# Altium footprint library 6LT400-5-1-1PCBb.PcbLib: 39 footprints (part 1 of 3)
Each footprint in its own frame and in the unit in brackets; x right, y up, seen from the top. Pads: shape width x height; smd on the part's side, far side on the other; paste and mask are expansions set on the pad; w line width, h text height; cw(c..) or ccw(c..) is an arc to the next point about the centre after c.
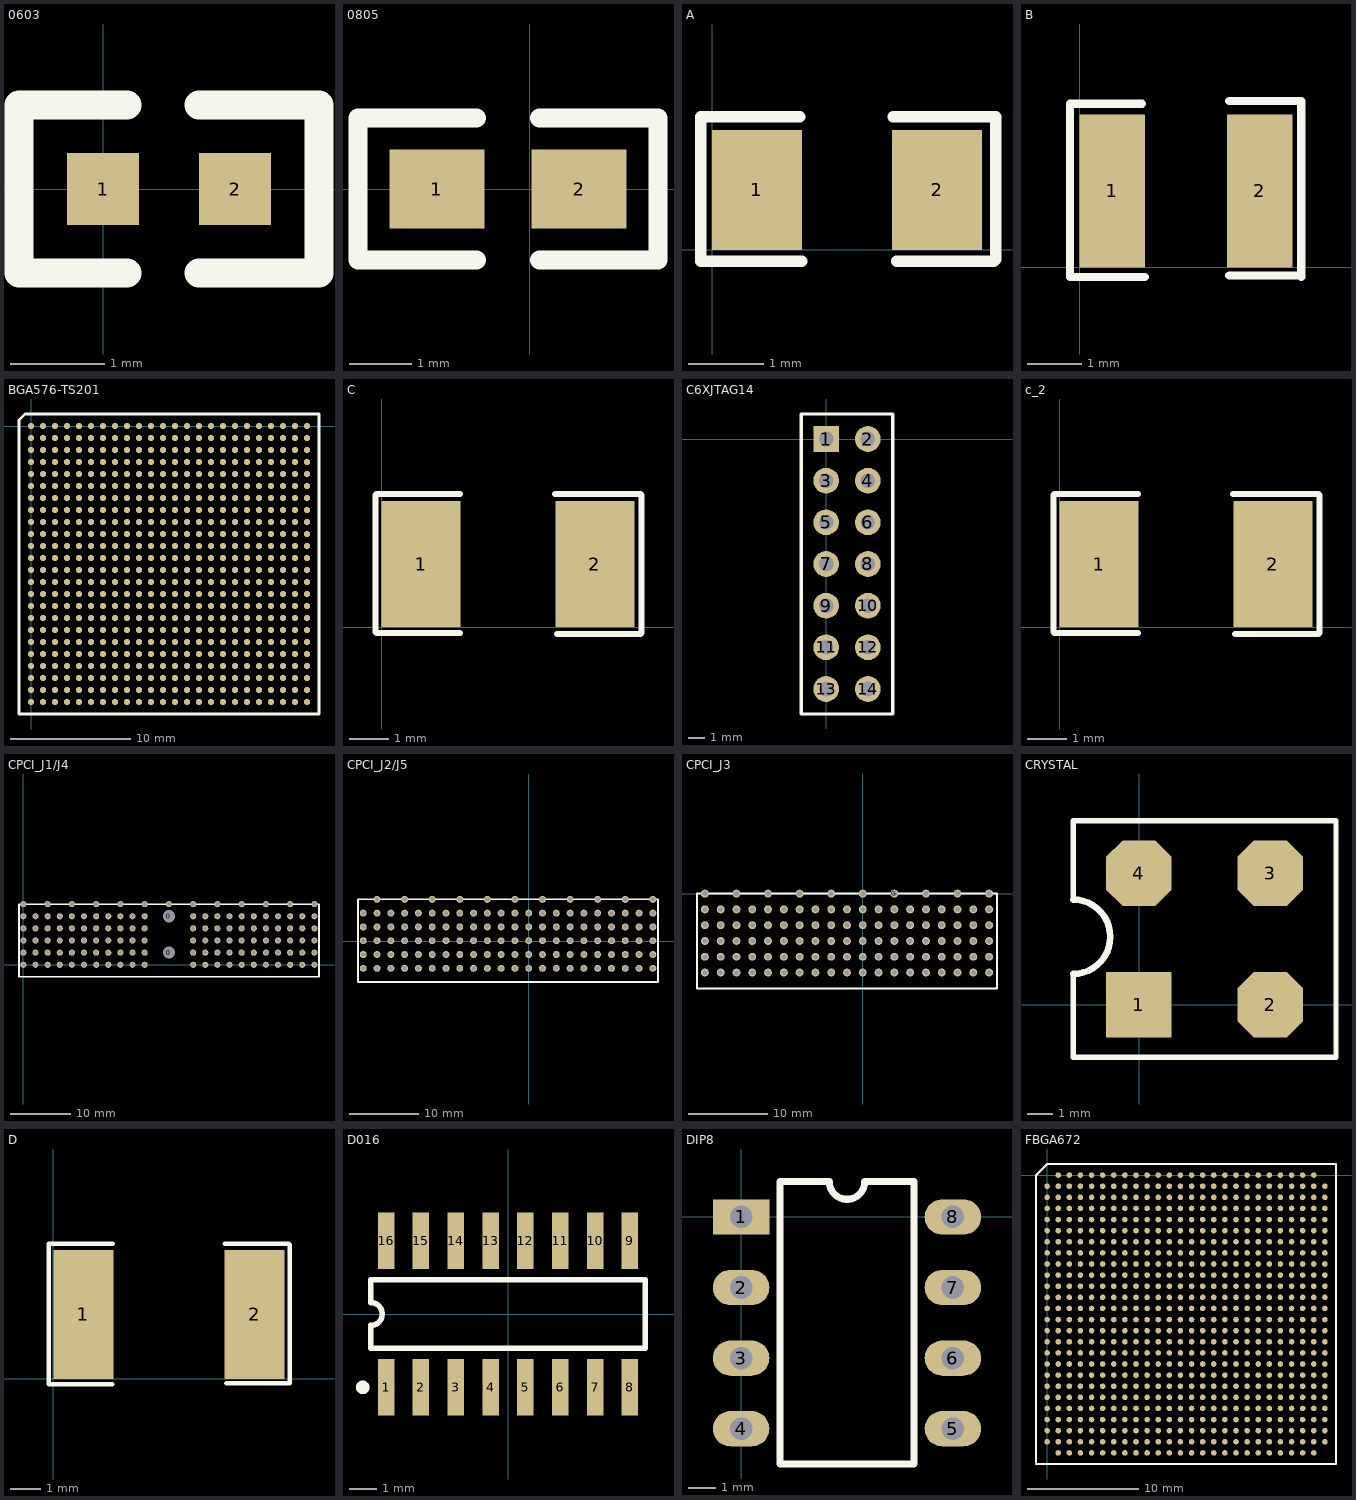
[diagram p0: the footprints below, top view; thin cyan lines are the x and y axes]

## 0603 [mil]
pads (2):
  rect 30x30 smd: 1(0,0) 2(55,0)
Top Overlay:
  lines w12: 10,-35 -35,-35 -35,35 10,35 ; 40,-35 90,-35 90,35 40,35

## 0805 [mil]
pads (2):
  rect 60x50 smd: 1(-58.77,0.22) 2(31.23,0.22)
Top Overlay:
  lines w12: -33.77,-44.78 -108.77,-44.78 -108.77,45.22 -33.77,45.22 ; 6.24,-44.78 81.23,-44.78 81.23,45.22 6.24,45.22

## A [mm]
pads (2):
  rect 1.2x1.6 smd: 1(0.6,0.8) 2(3,0.8)
Top Overlay:
  lines w0.152: 1.168,1.778 -0.127,1.778 -0.152,1.778 -0.152,-0.152 1.194,-0.152 ; 2.413,1.778 3.785,1.778 3.785,-0.127 3.759,-0.152 2.464,-0.152

## B [mm]
pads (2):
  rect 1.2x2.8 smd: 1(0.6,1.4) 2(3.3,1.4)
Top Overlay:
  lines w0.152: 1.143,2.997 -0.178,2.997 -0.178,-0.127 -0.178,-0.178 1.194,-0.178 ; 2.743,-0.152 4.039,-0.152 4.064,-0.178 4.064,3.048 4.013,3.048 2.743,3.048

## BGA576-TS201 [mm]
pads (576):
  round 0.51 smd: A1(0,0) A2(1,0) A3(2,0) A4(3,0) A5(4,0) A6(5,0) A7(6,0) A8(7,0) A9(8,0) A10(9,0) A11(10,0) A12(11,0) A13(12,0) A14(13,0) A15(14,0) A16(15,0) A17(16,0) A18(17,0) A19(18,0) A20(19,0) A21(20,0) A22(21,0) A23(22,0) A24(23,0) AA1(0,-20) AA2(1,-20) AA3(2,-20) AA4(3,-20) AA5(4,-20) AA6(5,-20) AA7(6,-20) AA8(7,-20) AA9(8,-20) AA10(9,-20) AA11(10,-20) AA12(11,-20) AA13(12,-20) AA14(13,-20) AA15(14,-20) AA16(15,-20) AA17(16,-20) AA18(17,-20) AA19(18,-20) AA20(19,-20) AA21(20,-20) AA22(21,-20) AA23(22,-20) AA24(23,-20) AB1(0,-21) AB2(1,-21) AB3(2,-21) AB4(3,-21) AB5(4,-21) AB6(5,-21) AB7(6,-21) AB8(7,-21) AB9(8,-21) AB10(9,-21) AB11(10,-21) AB12(11,-21) AB13(12,-21) AB14(13,-21) AB15(14,-21) AB16(15,-21) AB17(16,-21) AB18(17,-21) AB19(18,-21) AB20(19,-21) AB21(20,-21) AB22(21,-21) AB23(22,-21) AB24(23,-21) AC1(0,-22) AC2(1,-22) AC3(2,-22) AC4(3,-22) AC5(4,-22) AC6(5,-22) AC7(6,-22) AC8(7,-22) AC9(8,-22) AC10(9,-22) AC11(10,-22) AC12(11,-22) AC13(12,-22) AC14(13,-22) AC15(14,-22) AC16(15,-22) AC17(16,-22) AC18(17,-22) AC19(18,-22) AC20(19,-22) AC21(20,-22) AC22(21,-22) AC23(22,-22) AC24(23,-22) AD1(0,-23) AD2(1,-23) AD3(2,-23) AD4(3,-23) AD5(4,-23) AD6(5,-23) AD7(6,-23) AD8(7,-23) AD9(8,-23) AD10(9,-23) AD11(10,-23) AD12(11,-23) AD13(12,-23) AD14(13,-23) AD15(14,-23) AD16(15,-23) AD17(16,-23) AD18(17,-23) AD19(18,-23) AD20(19,-23) AD21(20,-23) AD22(21,-23) AD23(22,-23) AD24(23,-23) B1(0,-1) B2(1,-1) B3(2,-1) B4(3,-1) B5(4,-1) B6(5,-1) B7(6,-1) B8(7,-1) B9(8,-1) B10(9,-1) B11(10,-1) B12(11,-1) B13(12,-1) B14(13,-1) B15(14,-1) B16(15,-1) B17(16,-1) B18(17,-1) B19(18,-1) B20(19,-1) B21(20,-1) B22(21,-1) B23(22,-1) B24(23,-1) C1(0,-2) C2(1,-2) C3(2,-2) C4(3,-2) C5(4,-2) C6(5,-2) C7(6,-2) C8(7,-2) C9(8,-2) C10(9,-2) C11(10,-2) C12(11,-2) C13(12,-2) C14(13,-2) C15(14,-2) C16(15,-2) C17(16,-2) C18(17,-2) C19(18,-2) C20(19,-2) C21(20,-2) C22(21,-2) C23(22,-2) C24(23,-2) D1(0,-3) D2(1,-3) D3(2,-3) D4(3,-3) D5(4,-3) D6(5,-3) D7(6,-3) D8(7,-3) D9(8,-3) D10(9,-3) D11(10,-3) D12(11,-3) D13(12,-3) D14(13,-3) D15(14,-3) D16(15,-3) D17(16,-3) D18(17,-3) D19(18,-3) D20(19,-3) D21(20,-3) D22(21,-3) D23(22,-3) D24(23,-3) E1(0,-4) E2(1,-4) E3(2,-4) E4(3,-4) E5(4,-4) E6(5,-4) E7(6,-4) E8(7,-4) E9(8,-4) E10(9,-4) E11(10,-4) E12(11,-4) E13(12,-4) E14(13,-4) E15(14,-4) E16(15,-4) E17(16,-4) E18(17,-4) E19(18,-4) E20(19,-4) E21(20,-4) E22(21,-4) E23(22,-4) E24(23,-4) F1(0,-5) F2(1,-5) F3(2,-5) F4(3,-5) F5(4,-5) F6(5,-5) F7(6,-5) F8(7,-5) F9(8,-5) F10(9,-5) F11(10,-5) F12(11,-5) F13(12,-5) F14(13,-5) F15(14,-5) F16(15,-5) F17(16,-5) F18(17,-5) F19(18,-5) F20(19,-5) F21(20,-5) F22(21,-5) F23(22,-5) F24(23,-5) G1(0,-6) G2(1,-6) G3(2,-6) G4(3,-6) G5(4,-6) G6(5,-6) G7(6,-6) G8(7,-6) G9(8,-6) G10(9,-6) G11(10,-6) G12(11,-6) G13(12,-6) G14(13,-6) G15(14,-6) G16(15,-6) G17(16,-6) G18(17,-6) G19(18,-6) G20(19,-6) G21(20,-6) G22(21,-6) G23(22,-6) G24(23,-6) H1(0,-7) H2(1,-7) H3(2,-7) H4(3,-7) H5(4,-7) H6(5,-7) H7(6,-7) H8(7,-7) H9(8,-7) H10(9,-7) H11(10,-7) H12(11,-7) H13(12,-7) H14(13,-7) H15(14,-7) H16(15,-7) H17(16,-7) H18(17,-7) H19(18,-7) H20(19,-7) H21(20,-7) H22(21,-7) H23(22,-7) H24(23,-7) J1(0,-8) J2(1,-8) J3(2,-8) J4(3,-8) J5(4,-8) J6(5,-8) J7(6,-8) J8(7,-8) J9(8,-8) J10(9,-8) J11(10,-8) J12(11,-8) J13(12,-8) J14(13,-8) J15(14,-8) J16(15,-8) J17(16,-8) J18(17,-8) J19(18,-8) J20(19,-8) J21(20,-8) J22(21,-8) J23(22,-8) J24(23,-8) K1(0,-9) K2(1,-9) K3(2,-9) K4(3,-9) K5(4,-9) K6(5,-9) K7(6,-9) K8(7,-9) K9(8,-9) K10(9,-9) K11(10,-9) K12(11,-9) K13(12,-9) K14(13,-9) K15(14,-9) K16(15,-9) K17(16,-9) K18(17,-9) K19(18,-9) K20(19,-9) K21(20,-9) K22(21,-9) K23(22,-9) K24(23,-9) L1(0,-10) L2(1,-10) L3(2,-10) L4(3,-10) L5(4,-10) L6(5,-10) L7(6,-10) L8(7,-10) L9(8,-10) L10(9,-10) L11(10,-10) L12(11,-10) L13(12,-10) L14(13,-10) L15(14,-10) L16(15,-10) L17(16,-10) L18(17,-10) L19(18,-10) L20(19,-10) L21(20,-10) L22(21,-10) L23(22,-10) L24(23,-10) M1(0,-11) M2(1,-11) M3(2,-11) M4(3,-11) M5(4,-11) M6(5,-11) M7(6,-11) M8(7,-11) M9(8,-11) M10(9,-11) M11(10,-11) M12(11,-11) M13(12,-11) M14(13,-11) M15(14,-11) M16(15,-11) M17(16,-11) M18(17,-11) M19(18,-11) M20(19,-11) M21(20,-11) M22(21,-11) M23(22,-11) M24(23,-11) N1(0,-12) N2(1,-12) N3(2,-12) N4(3,-12) N5(4,-12) N6(5,-12) N7(6,-12) N8(7,-12) N9(8,-12) N10(9,-12) N11(10,-12) N12(11,-12) N13(12,-12) N14(13,-12) N15(14,-12) N16(15,-12) N17(16,-12) N18(17,-12) N19(18,-12) N20(19,-12) N21(20,-12) N22(21,-12) N23(22,-12) N24(23,-12) P1(0,-13) P2(1,-13) P3(2,-13) P4(3,-13) P5(4,-13) P6(5,-13) P7(6,-13) P8(7,-13) P9(8,-13) P10(9,-13) P11(10,-13) P12(11,-13) P13(12,-13) P14(13,-13) P15(14,-13) P16(15,-13) P17(16,-13) P18(17,-13) P19(18,-13) P20(19,-13) P21(20,-13) P22(21,-13) P23(22,-13) P24(23,-13) R1(0,-14) R2(1,-14) R3(2,-14) R4(3,-14) R5(4,-14) R6(5,-14) R7(6,-14) R8(7,-14) R9(8,-14) R10(9,-14) R11(10,-14) R12(11,-14) R13(12,-14) R14(13,-14) R15(14,-14) R16(15,-14) R17(16,-14) R18(17,-14) R19(18,-14) R20(19,-14) R21(20,-14) R22(21,-14) R23(22,-14) R24(23,-14) T1(0,-15) T2(1,-15) T3(2,-15) T4(3,-15) T5(4,-15) T6(5,-15) T7(6,-15) T8(7,-15) T9(8,-15) T10(9,-15) T11(10,-15) T12(11,-15) T13(12,-15) T14(13,-15) T15(14,-15) T16(15,-15) T17(16,-15) T18(17,-15) T19(18,-15) T20(19,-15) T21(20,-15) T22(21,-15) T23(22,-15) T24(23,-15) U1(0,-16) U2(1,-16) U3(2,-16) U4(3,-16) U5(4,-16) U6(5,-16) U7(6,-16) U8(7,-16) U9(8,-16) U10(9,-16) U11(10,-16) U12(11,-16) U13(12,-16) U14(13,-16) U15(14,-16) U16(15,-16) U17(16,-16) U18(17,-16) U19(18,-16) U20(19,-16) U21(20,-16) U22(21,-16) U23(22,-16) U24(23,-16) V1(0,-17) V2(1,-17) V3(2,-17) V4(3,-17) V5(4,-17) V6(5,-17) V7(6,-17) V8(7,-17) V9(8,-17) V10(9,-17) V11(10,-17) V12(11,-17) V13(12,-17) V14(13,-17) V15(14,-17) V16(15,-17) V17(16,-17) V18(17,-17) V19(18,-17) V20(19,-17) V21(20,-17) V22(21,-17) V23(22,-17) V24(23,-17) W1(0,-18) W2(1,-18) W3(2,-18) W4(3,-18) W5(4,-18) W6(5,-18) W7(6,-18) W8(7,-18) W9(8,-18) W10(9,-18) W11(10,-18) W12(11,-18) W13(12,-18) W14(13,-18) W15(14,-18) W16(15,-18) W17(16,-18) W18(17,-18) W19(18,-18) W20(19,-18) W21(20,-18) W22(21,-18) W23(22,-18) W24(23,-18) Y1(0,-19) Y2(1,-19) Y3(2,-19) Y4(3,-19) Y5(4,-19) Y6(5,-19) Y7(6,-19) Y8(7,-19) Y9(8,-19) Y10(9,-19) Y11(10,-19) Y12(11,-19) Y13(12,-19) Y14(13,-19) Y15(14,-19) Y16(15,-19) Y17(16,-19) Y18(17,-19) Y19(18,-19) Y20(19,-19) Y21(20,-19) Y22(21,-19) Y23(22,-19) Y24(23,-19)
Top Overlay:
  lines w0.254: -1,-24 24,-24 24,1 -0.5,1 -1,0.5 -1,-24

## C [mm]
pads (2):
  rect 2x3.2 smd: 1(1,1.6) 2(5.4,1.6)
Top Overlay:
  lines w0.152: 1.981,-0.152 -0.127,-0.152 -0.152,-0.127 -0.152,3.353 -0.127,3.378 1.981,3.378 ; 4.394,3.378 6.553,3.378 6.579,3.353 6.579,-0.152 6.553,-0.178 4.445,-0.178

## C6XJTAG14 [mm]
pads (14):
  rect 1.57x1.57 hole 0.9: 1(-0.009,0.008)
  round 1.57 hole 0.9: 2(2.531,0.008) 3(-0.009,-2.532) 4(2.531,-2.532) 5(-0.009,-5.072) 6(2.531,-5.072) 7(-0.009,-7.612) 8(2.531,-7.612) 9(-0.009,-10.152) 10(2.531,-10.152) 11(-0.009,-12.692) 12(2.531,-12.692) 13(-0.009,-15.232) 14(2.531,-15.232)
Top Overlay:
  lines w0.203: -1.533,-16.756 4.055,-16.756 4.055,1.532 -1.533,1.532 -1.533,-16.756

## c_2 [mm]
pads (2):
  rect 2x3.2 smd: 1(1,1.6) 2(5.4,1.6)
Top Overlay:
  lines w0.152: 1.981,-0.152 -0.127,-0.152 -0.152,-0.127 -0.152,3.353 -0.127,3.378 1.981,3.378 ; 4.394,3.378 6.553,3.378 6.579,3.353 6.579,-0.152 6.553,-0.178 4.445,-0.178

## CPCI_J1/J4 [mm]
pads (125):
  round 1.524 hole 2: 0(24.015,2.005) 0(24.015,8.005)
  round 1 hole 0.635: A1(0.015,0.005) A2(2.015,0.005) A3(4.015,0.005) A4(6.015,0.005) A5(8.015,0.005) A6(10.015,0.005) A7(12.015,0.005) A8(14.015,0.005) A9(16.015,0.005) A10(18.015,0.005) A11(20.015,0.005) A15(28.015,0.005) A16(30.015,0.005) A17(32.015,0.005) A18(34.015,0.005) A19(36.015,0.005) A20(38.015,0.005) A21(40.015,0.005) A22(42.015,0.005) A23(44.015,0.005) A24(46.015,0.005) A25(48.015,0.005) B1(0.015,2.005) B2(2.015,2.005) B3(4.015,2.005) B4(6.015,2.005) B5(8.015,2.005) B6(10.015,2.005) B7(12.015,2.005) B8(14.015,2.005) B9(16.015,2.005) B10(18.015,2.005) B11(20.015,2.005) B15(28.015,2.005) B16(30.015,2.005) B17(32.015,2.005) B18(34.015,2.005) B19(36.015,2.005) B20(38.015,2.005) B21(40.015,2.005) B22(42.015,2.005) B23(44.015,2.005) B24(46.015,2.005) B25(48.015,2.005) C1(0.015,4.005) C2(2.015,4.005) C3(4.015,4.005) C4(6.015,4.005) C5(8.015,4.005) C6(10.015,4.005) C7(12.015,4.005) C8(14.015,4.005) C9(16.015,4.005) C10(18.015,4.005) C11(20.015,4.005) C15(28.015,4.005) C16(30.015,4.005) C17(32.015,4.005) C18(34.015,4.005) C19(36.015,4.005) C20(38.015,4.005) C21(40.015,4.005) C22(42.015,4.005) C23(44.015,4.005) C24(46.015,4.005) C25(48.015,4.005) D1(0.015,6.005) D2(2.015,6.005) D3(4.015,6.005) D4(6.015,6.005) D5(8.015,6.005) D6(10.015,6.005) D7(12.015,6.005) D8(14.015,6.005) D9(16.015,6.005) D10(18.015,6.005) D11(20.015,6.005) D15(28.015,6.005) D16(30.015,6.005) D17(32.015,6.005) D18(34.015,6.005) D19(36.015,6.005) D20(38.015,6.005) D21(40.015,6.005) D22(42.015,6.005) D23(44.015,6.005) D24(46.015,6.005) D25(48.015,6.005) E1(0.015,8.005) E2(2.015,8.005) E3(4.015,8.005) E4(6.015,8.005) E5(8.015,8.005) E6(10.015,8.005) E7(12.015,8.005) E8(14.015,8.005) E9(16.015,8.005) E10(18.015,8.005) E11(20.015,8.005) E15(28.015,8.005) E16(30.015,8.005) E17(32.015,8.005) E18(34.015,8.005) E19(36.015,8.005) E20(38.015,8.005) E21(40.015,8.005) E22(42.015,8.005) E23(44.015,8.005) E24(46.015,8.005) E25(48.015,8.005) F1(0.015,10.005) F3(4.015,10.005) F5(8.015,10.005) F7(12.015,10.005) F9(16.015,10.005) F11(20.015,10.005) F15(28.015,10.005) F17(32.015,10.005) F19(36.015,10.005) F21(40.015,10.005) F23(44.015,10.005) F25(48.015,10.005) G(24.015,10.005)
Top Overlay:
  lines w0.254: -0.708,-1.995 48.771,-1.995 48.771,10.005 -0.708,10.005 -0.708,-1.995

## CPCI_J2/J5 [mm]
pads (121):
  round 1 hole 0.635: A1(-23.991,-3.918) A2(-21.991,-3.918) A3(-19.991,-3.918) A4(-17.991,-3.918) A5(-15.991,-3.918) A6(-13.991,-3.918) A7(-11.991,-3.918) A8(-9.991,-3.918) A9(-7.991,-3.918) A10(-5.991,-3.918) A11(-3.991,-3.918) A12(-1.991,-3.918) A13(0.009,-3.918) A14(2.009,-3.918) A15(4.009,-3.918) A16(6.009,-3.918) A17(8.009,-3.918) A18(10.009,-3.918) A19(12.009,-3.918) A20(14.009,-3.918) A21(16.009,-3.918) A22(18.009,-3.918) B1(-23.991,-1.918) B2(-21.991,-1.918) B3(-19.991,-1.918) B4(-17.991,-1.918) B5(-15.991,-1.918) B6(-13.991,-1.918) B7(-11.991,-1.918) B8(-9.991,-1.918) B9(-7.991,-1.918) B10(-5.991,-1.918) B11(-3.991,-1.918) B12(-1.991,-1.918) B13(0.009,-1.918) B14(2.009,-1.918) B15(4.009,-1.918) B16(6.009,-1.918) B17(8.009,-1.918) B18(10.009,-1.918) B19(12.009,-1.918) B20(14.009,-1.918) B21(16.009,-1.918) B22(18.009,-1.918) C1(-23.991,0.082) C2(-21.991,0.082) C3(-19.991,0.082) C4(-17.991,0.082) C5(-15.991,0.082) C6(-13.991,0.082) C7(-11.991,0.082) C8(-9.991,0.082) C9(-7.991,0.082) C10(-5.991,0.082) C11(-3.991,0.082) C12(-1.991,0.082) C13(0.009,0.082) C14(2.009,0.082) C15(4.009,0.082) C16(6.009,0.082) C17(8.009,0.082) C18(10.009,0.082) C19(12.009,0.082) C20(14.009,0.082) C21(16.009,0.082) C22(18.009,0.082) D1(-23.991,2.082) D2(-21.991,2.082) D3(-19.991,2.082) D4(-17.991,2.082) D5(-15.991,2.082) D6(-13.991,2.082) D7(-11.991,2.082) D8(-9.991,2.082) D9(-7.991,2.082) D10(-5.991,2.082) D11(-3.991,2.082) D12(-1.991,2.082) D13(0.009,2.082) D14(2.009,2.082) D15(4.009,2.082) D16(6.009,2.082) D17(8.009,2.082) D18(10.009,2.082) D19(12.009,2.082) D20(14.009,2.082) D21(16.009,2.082) D22(18.009,2.082) E1(-23.991,4.082) E2(-21.991,4.082) E3(-19.991,4.082) E4(-17.991,4.082) E5(-15.991,4.082) E6(-13.991,4.082) E7(-11.991,4.082) E8(-9.991,4.082) E9(-7.991,4.082) E10(-5.991,4.082) E11(-3.991,4.082) E12(-1.991,4.082) E13(0.009,4.082) E14(2.009,4.082) E15(4.009,4.082) E16(6.009,4.082) E17(8.009,4.082) E18(10.009,4.082) E19(12.009,4.082) E20(14.009,4.082) E21(16.009,4.082) E22(18.009,4.082) F2(-21.991,6.082) F4(-17.991,6.082) F6(-13.991,6.082) F8(-9.991,6.082) F10(-5.991,6.082) F12(-1.991,6.082) F14(2.009,6.082) F16(6.009,6.082) F18(10.009,6.082) F20(14.009,6.082) F22(18.009,6.082)
Top Overlay:
  lines w0.254: -24.752,-5.918 18.758,-5.918 ; -24.752,-5.914 -24.752,6.086 ; -24.752,6.082 18.758,6.082 ; 18.758,-5.864 18.758,6.086

## CPCI_J3 [mm]
pads (105):
  round 1 hole 0.635: A1(-19.997,-10.009) A2(-17.997,-10.009) A3(-15.997,-10.009) A4(-13.997,-10.009) A5(-11.997,-10.009) A6(-9.997,-10.009) A7(-7.997,-10.009) A8(-5.997,-10.009) A9(-3.997,-10.009) A10(-1.997,-10.009) A11(0.003,-10.009) A12(2.003,-10.009) A13(4.003,-10.009) A14(6.003,-10.009) A15(8.003,-10.009) A16(10.003,-10.009) A17(12.003,-10.009) A18(14.003,-10.009) A19(16.003,-10.009) B1(-19.997,-8.009) B2(-17.997,-8.009) B3(-15.997,-8.009) B4(-13.997,-8.009) B5(-11.997,-8.009) B6(-9.997,-8.009) B7(-7.997,-8.009) B8(-5.997,-8.009) B9(-3.997,-8.009) B10(-1.997,-8.009) B11(0.003,-8.009) B12(2.003,-8.009) B13(4.003,-8.009) B14(6.003,-8.009) B15(8.003,-8.009) B16(10.003,-8.009) B17(12.003,-8.009) B18(14.003,-8.009) B19(16.003,-8.009) C1(-19.997,-6.009) C2(-17.997,-6.009) C3(-15.997,-6.009) C4(-13.997,-6.009) C5(-11.997,-6.009) C6(-9.997,-6.009) C7(-7.997,-6.009) C8(-5.997,-6.009) C9(-3.997,-6.009) C10(-1.997,-6.009) C11(0.003,-6.009) C12(2.003,-6.009) C13(4.003,-6.009) C14(6.003,-6.009) C15(8.003,-6.009) C16(10.003,-6.009) C17(12.003,-6.009) C18(14.003,-6.009) C19(16.003,-6.009) D1(-19.997,-4.009) D2(-17.997,-4.009) D3(-15.997,-4.009) D4(-13.997,-4.009) D5(-11.997,-4.009) D6(-9.997,-4.009) D7(-7.997,-4.009) D8(-5.997,-4.009) D9(-3.997,-4.009) D10(-1.997,-4.009) D11(0.003,-4.009) D12(2.003,-4.009) D13(4.003,-4.009) D14(6.003,-4.009) D15(8.003,-4.009) D16(10.003,-4.009) D17(12.003,-4.009) D18(14.003,-4.009) D19(16.003,-4.009) E1(-19.997,-2.009) E2(-17.997,-2.009) E3(-15.997,-2.009) E4(-13.997,-2.009) E5(-11.997,-2.009) E6(-9.997,-2.009) E7(-7.997,-2.009) E8(-5.997,-2.009) E9(-3.997,-2.009) E10(-1.997,-2.009) E11(0.003,-2.009) E12(2.003,-2.009) E13(4.003,-2.009) E14(6.003,-2.009) E15(8.003,-2.009) E16(10.003,-2.009) E17(12.003,-2.009) E18(14.003,-2.009) E19(16.003,-2.009) F1(-19.997,-0.009) F3(-15.997,-0.009) F5(-11.997,-0.009) F7(-7.997,-0.009) F9(-3.997,-0.009) F11(0.003,-0.009) F15(8.003,-0.009) F17(12.003,-0.009) F19(16.003,-0.009) G(4.003,-0.009)
Top Overlay:
  lines w0.254: -20.997,-12.009 17.003,-12.009 17.003,-0.009 -20.997,-0.009 -20.997,-12.009

## CRYSTAL [mm]
pads (4):
  rect 2.54x2.54 smd: 1(-0.009,0.008)
  oct 2.54x2.54 smd: 2(5.071,0.008) 3(5.071,5.088) 4(-0.009,5.088)
Top Overlay:
  lines w0.203: -2.549,1.198 -2.549,-2.024 7.611,-2.024 7.611,7.12 -2.549,7.12 -2.549,4.072
  lines w0.254: -2.549,1.198 ccw(c-2.549,2.635) -2.549,4.072

## D [mm]
pads (2):
  rect 2x4.3 smd: 1(1,2.15) 2(6.7,2.15)
Top Overlay:
  lines w0.152: -0.152,-0.178 -0.152,4.496 ; -0.152,-0.127 -0.102,-0.178 1.956,-0.178 ; -0.127,4.496 1.981,4.496 ; 5.715,4.496 7.849,4.496 7.874,4.47 7.874,-0.152 5.766,-0.152

## D016 [mm]
pads (16):
  rect 0.6x2.05 smd: 1(-4.457,-2.675) 2(-3.187,-2.675) 3(-1.917,-2.675) 4(-0.647,-2.675) 5(0.623,-2.675) 6(1.893,-2.675) 7(3.163,-2.675) 8(4.433,-2.675) 9(4.433,2.675) 10(3.163,2.675) 11(1.893,2.675) 12(0.623,2.675) 13(-0.647,2.675) 14(-1.917,2.675) 15(-3.187,2.675) 16(-4.457,2.675)
Top Overlay:
  circle w0.25: c-5.307,-2.675 r0.125
  lines w0.2: -5.012,-1.25 4.988,-1.25 4.988,1.25 -5.012,1.25 -5.012,0.417 cw(c-5.012,0) -5.012,-0.417 -5.012,-1.25

## DIP8 [mil]
pads (8):
  rect 80x50 hole 32: 1(0,0)
  oval 80x50 hole 32: 2(0,-100) 3(0,-200) 4(0,-300) 5(300,-300) 6(300,-200) 7(300,-100) 8(300,0)
Top Overlay:
  lines w10: 55,-350 245,-350 245,50 175,50 cw(c150,50) 125,50 55,50 55,-350

## FBGA672 [mm]
pads (672):
  round 0.5 smd: A2(0.992,-0.001) A3(1.992,-0.001) A4(2.992,-0.001) A5(3.992,-0.001) A6(4.992,-0.001) A7(5.992,-0.001) A8(6.992,-0.001) A9(7.992,-0.001) A10(8.992,-0.001) A11(9.992,-0.001) A12(10.992,-0.001) A13(11.992,-0.001) A14(12.992,-0.001) A15(13.992,-0.001) A16(14.992,-0.001) A17(15.992,-0.001) A18(16.992,-0.001) A19(17.992,-0.001) A20(18.992,-0.001) A21(19.992,-0.001) A22(20.992,-0.001) A23(21.992,-0.001) A24(22.992,-0.001) A25(23.992,-0.001) AA1(-0.008,-20.001) AA2(0.992,-20.001) AA3(1.992,-20.001) AA4(2.992,-20.001) AA5(3.992,-20.001) AA6(4.992,-20.001) AA7(5.992,-20.001) AA8(6.992,-20.001) AA9(7.992,-20.001) AA10(8.992,-20.001) AA11(9.992,-20.001) AA12(10.992,-20.001) AA13(11.992,-20.001) AA14(12.992,-20.001) AA15(13.992,-20.001) AA16(14.992,-20.001) AA17(15.992,-20.001) AA18(16.992,-20.001) AA19(17.992,-20.001) AA20(18.992,-20.001) AA21(19.992,-20.001) AA22(20.992,-20.001) AA23(21.992,-20.001) AA24(22.992,-20.001) AA25(23.992,-20.001) AA26(24.992,-20.001) AB1(-0.008,-21.001) AB2(0.992,-21.001) AB3(1.992,-21.001) AB4(2.992,-21.001) AB5(3.992,-21.001) AB6(4.992,-21.001) AB7(5.992,-21.001) AB8(6.992,-21.001) AB9(7.992,-21.001) AB10(8.992,-21.001) AB11(9.992,-21.001) AB12(10.992,-21.001) AB13(11.992,-21.001) AB14(12.992,-21.001) AB15(13.992,-21.001) AB16(14.992,-21.001) AB17(15.992,-21.001) AB18(16.992,-21.001) AB19(17.992,-21.001) AB20(18.992,-21.001) AB21(19.992,-21.001) AB22(20.992,-21.001) AB23(21.992,-21.001) AB24(22.992,-21.001) AB25(23.992,-21.001) AB26(24.992,-21.001) AC1(-0.008,-22.001) AC2(0.992,-22.001) AC3(1.992,-22.001) AC4(2.992,-22.001) AC5(3.992,-22.001) AC6(4.992,-22.001) AC7(5.992,-22.001) AC8(6.992,-22.001) AC9(7.992,-22.001) AC10(8.992,-22.001) AC11(9.992,-22.001) AC12(10.992,-22.001) AC13(11.992,-22.001) AC14(12.992,-22.001) AC15(13.992,-22.001) AC16(14.992,-22.001) AC17(15.992,-22.001) AC18(16.992,-22.001) AC19(17.992,-22.001) AC20(18.992,-22.001) AC21(19.992,-22.001) AC22(20.992,-22.001) AC23(21.992,-22.001) AC24(22.992,-22.001) AC25(23.992,-22.001) AC26(24.992,-22.001) AD1(-0.008,-23.001) AD2(0.992,-23.001) AD3(1.992,-23.001) AD4(2.992,-23.001) AD5(3.992,-23.001) AD6(4.992,-23.001) AD7(5.992,-23.001) AD8(6.992,-23.001) AD9(7.992,-23.001) AD10(8.992,-23.001) AD11(9.992,-23.001) AD12(10.992,-23.001) AD13(11.992,-23.001) AD14(12.992,-23.001) AD15(13.992,-23.001) AD16(14.992,-23.001) AD17(15.992,-23.001) AD18(16.992,-23.001) AD19(17.992,-23.001) AD20(18.992,-23.001) AD21(19.992,-23.001) AD22(20.992,-23.001) AD23(21.992,-23.001) AD24(22.992,-23.001) AD25(23.992,-23.001) AD26(24.992,-23.001) AE1(-0.008,-24.001) AE2(0.992,-24.001) AE3(1.992,-24.001) AE4(2.992,-24.001) AE5(3.992,-24.001) AE6(4.992,-24.001) AE7(5.992,-24.001) AE8(6.992,-24.001) AE9(7.992,-24.001) AE10(8.992,-24.001) AE11(9.992,-24.001) AE12(10.992,-24.001) AE13(11.992,-24.001) AE14(12.992,-24.001) AE15(13.992,-24.001) AE16(14.992,-24.001) AE17(15.992,-24.001) AE18(16.992,-24.001) AE19(17.992,-24.001) AE20(18.992,-24.001) AE21(19.992,-24.001) AE22(20.992,-24.001) AE23(21.992,-24.001) AE24(22.992,-24.001) AE25(23.992,-24.001) AE26(24.992,-24.001) AF2(0.992,-25.001) AF3(1.992,-25.001) AF4(2.992,-25.001) AF5(3.992,-25.001) AF6(4.992,-25.001) AF7(5.992,-25.001) AF8(6.992,-25.001) AF9(7.992,-25.001) AF10(8.992,-25.001) AF11(9.992,-25.001) AF12(10.992,-25.001) AF13(11.992,-25.001) AF14(12.992,-25.001) AF15(13.992,-25.001) AF16(14.992,-25.001) AF17(15.992,-25.001) AF18(16.992,-25.001) AF19(17.992,-25.001) AF20(18.992,-25.001) AF21(19.992,-25.001) AF22(20.992,-25.001) AF23(21.992,-25.001) AF24(22.992,-25.001) AF25(23.992,-25.001) B1(-0.008,-1.001) B2(0.992,-1.001) B3(1.992,-1.001) B4(2.992,-1.001) B5(3.992,-1.001) B6(4.992,-1.001) B7(5.992,-1.001) B8(6.992,-1.001) B9(7.992,-1.001) B10(8.992,-1.001) B11(9.992,-1.001) B12(10.992,-1.001) B13(11.992,-1.001) B14(12.992,-1.001) B15(13.992,-1.001) B16(14.992,-1.001) B17(15.992,-1.001) B18(16.992,-1.001) B19(17.992,-1.001) B20(18.992,-1.001) B21(19.992,-1.001) B22(20.992,-1.001) B23(21.992,-1.001) B24(22.992,-1.001) B25(23.992,-1.001) B26(24.992,-1.001) C1(-0.008,-2.001) C2(0.992,-2.001) C3(1.992,-2.001) C4(2.992,-2.001) C5(3.992,-2.001) C6(4.992,-2.001) C7(5.992,-2.001) C8(6.992,-2.001) C9(7.992,-2.001) C10(8.992,-2.001) C11(9.992,-2.001) C12(10.992,-2.001) C13(11.992,-2.001) C14(12.992,-2.001) C15(13.992,-2.001) C16(14.992,-2.001) C17(15.992,-2.001) C18(16.992,-2.001) C19(17.992,-2.001) C20(18.992,-2.001) C21(19.992,-2.001) C22(20.992,-2.001) C23(21.992,-2.001) C24(22.992,-2.001) C25(23.992,-2.001) C26(24.992,-2.001) D1(-0.008,-3.001) D2(0.992,-3.001) D3(1.992,-3.001) D4(2.992,-3.001) D5(3.992,-3.001) D6(4.992,-3.001) D7(5.992,-3.001) D8(6.992,-3.001) D9(7.992,-3.001) D10(8.992,-3.001) D11(9.992,-3.001) D12(10.992,-3.001) D13(11.992,-3.001) D14(12.992,-3.001) D15(13.992,-3.001) D16(14.992,-3.001) D17(15.992,-3.001) D18(16.992,-3.001) D19(17.992,-3.001) D20(18.992,-3.001) D21(19.992,-3.001) D22(20.992,-3.001) D23(21.992,-3.001) D24(22.992,-3.001) D25(23.992,-3.001) D26(24.992,-3.001) E1(-0.008,-4.001) E2(0.992,-4.001) E3(1.992,-4.001) E4(2.992,-4.001) E5(3.992,-4.001) E6(4.992,-4.001) E7(5.992,-4.001) E8(6.992,-4.001) E9(7.992,-4.001) E10(8.992,-4.001) E11(9.992,-4.001) E12(10.992,-4.001) E13(11.992,-4.001) E14(12.992,-4.001) E15(13.992,-4.001) E16(14.992,-4.001) E17(15.992,-4.001) E18(16.992,-4.001) E19(17.992,-4.001) E20(18.992,-4.001) E21(19.992,-4.001) E22(20.992,-4.001) E23(21.992,-4.001) E24(22.992,-4.001) E25(23.992,-4.001) E26(24.992,-4.001) F1(-0.008,-5.001) F2(0.992,-5.001) F3(1.992,-5.001) F4(2.992,-5.001) F5(3.992,-5.001) F6(4.992,-5.001) F7(5.992,-5.001) F8(6.992,-5.001) F9(7.992,-5.001) F10(8.992,-5.001) F11(9.992,-5.001) F12(10.992,-5.001) F13(11.992,-5.001) F14(12.992,-5.001) F15(13.992,-5.001) F16(14.992,-5.001) F17(15.992,-5.001) F18(16.992,-5.001) F19(17.992,-5.001) F20(18.992,-5.001) F21(19.992,-5.001) F22(20.992,-5.001) F23(21.992,-5.001) F24(22.992,-5.001) F25(23.992,-5.001) F26(24.992,-5.001) G1(-0.008,-6.001) G2(0.992,-6.001) G3(1.992,-6.001) G4(2.992,-6.001) G5(3.992,-6.001) G6(4.992,-6.001) G7(5.992,-6.001) G8(6.992,-6.001) G9(7.992,-6.001) G10(8.992,-6.001) G11(9.992,-6.001) G12(10.992,-6.001) G13(11.992,-6.001) G14(12.992,-6.001) G15(13.992,-6.001) G16(14.992,-6.001) G17(15.992,-6.001) G18(16.992,-6.001) G19(17.992,-6.001) G20(18.992,-6.001) G21(19.992,-6.001) G22(20.992,-6.001) G23(21.992,-6.001) G24(22.992,-6.001) G25(23.992,-6.001) G26(24.992,-6.001) H1(-0.008,-7.001) H2(0.992,-7.001) H3(1.992,-7.001) H4(2.992,-7.001) H5(3.992,-7.001) H6(4.992,-7.001) H7(5.992,-7.001) H8(6.992,-7.001) H9(7.992,-7.001) H10(8.992,-7.001) H11(9.992,-7.001) H12(10.992,-7.001) H13(11.992,-7.001) H14(12.992,-7.001) H15(13.992,-7.001) H16(14.992,-7.001) H17(15.992,-7.001) H18(16.992,-7.001) H19(17.992,-7.001) H20(18.992,-7.001) H21(19.992,-7.001) H22(20.992,-7.001) H23(21.992,-7.001) H24(22.992,-7.001) H25(23.992,-7.001) H26(24.992,-7.001) J1(-0.008,-8.001) J2(0.992,-8.001) J3(1.992,-8.001) J4(2.992,-8.001) J5(3.992,-8.001) J6(4.992,-8.001) J7(5.992,-8.001) J8(6.992,-8.001) J9(7.992,-8.001) J10(8.992,-8.001) J11(9.992,-8.001) J12(10.992,-8.001) J13(11.992,-8.001) J14(12.992,-8.001) J15(13.992,-8.001) J16(14.992,-8.001) J17(15.992,-8.001) J18(16.992,-8.001) J19(17.992,-8.001) J20(18.992,-8.001) J21(19.992,-8.001) J22(20.992,-8.001) J23(21.992,-8.001) J24(22.992,-8.001) J25(23.992,-8.001) J26(24.992,-8.001) K1(-0.008,-9.001) K2(0.992,-9.001) K3(1.992,-9.001) K4(2.992,-9.001) K5(3.992,-9.001) K6(4.992,-9.001) K7(5.992,-9.001) K8(6.992,-9.001) K9(7.992,-9.001) K10(8.992,-9.001) K11(9.992,-9.001) K12(10.992,-9.001) K13(11.992,-9.001) K14(12.992,-9.001) K15(13.992,-9.001) K16(14.992,-9.001) K17(15.992,-9.001) K18(16.992,-9.001) K19(17.992,-9.001) K20(18.992,-9.001) K21(19.992,-9.001) K22(20.992,-9.001) K23(21.992,-9.001) K24(22.992,-9.001) K25(23.992,-9.001) K26(24.992,-9.001) L1(-0.008,-10.001) L2(0.992,-10.001) L3(1.992,-10.001) L4(2.992,-10.001) L5(3.992,-10.001) L6(4.992,-10.001) L7(5.992,-10.001) L8(6.992,-10.001) L9(7.992,-10.001) L10(8.992,-10.001) L11(9.992,-10.001) L12(10.992,-10.001) L13(11.992,-10.001) L14(12.992,-10.001) L15(13.992,-10.001) L16(14.992,-10.001) L17(15.992,-10.001) L18(16.992,-10.001) L19(17.992,-10.001) L20(18.992,-10.001) L21(19.992,-10.001) L22(20.992,-10.001) L23(21.992,-10.001) L24(22.992,-10.001) L25(23.992,-10.001) L26(24.992,-10.001) M1(-0.008,-11.001) M2(0.992,-11.001) M3(1.992,-11.001) M4(2.992,-11.001) M5(3.992,-11.001) M6(4.992,-11.001) M7(5.992,-11.001) M8(6.992,-11.001) M9(7.992,-11.001) M10(8.992,-11.001) M11(9.992,-11.001) M12(10.992,-11.001) M13(11.992,-11.001) M14(12.992,-11.001) M15(13.992,-11.001) M16(14.992,-11.001) M17(15.992,-11.001) M18(16.992,-11.001) M19(17.992,-11.001) M20(18.992,-11.001) M21(19.992,-11.001) M22(20.992,-11.001) M23(21.992,-11.001) M24(22.992,-11.001) M25(23.992,-11.001) M26(24.992,-11.001) N1(-0.008,-12.001) N2(0.992,-12.001) N3(1.992,-12.001) N4(2.992,-12.001) N5(3.992,-12.001) N6(4.992,-12.001) N7(5.992,-12.001) N8(6.992,-12.001) N9(7.992,-12.001) N10(8.992,-12.001) N11(9.992,-12.001) N12(10.992,-12.001) N13(11.992,-12.001) N14(12.992,-12.001) N15(13.992,-12.001) N16(14.992,-12.001) N17(15.992,-12.001) N18(16.992,-12.001) N19(17.992,-12.001) N20(18.992,-12.001) N21(19.992,-12.001) N22(20.992,-12.001) N23(21.992,-12.001) N24(22.992,-12.001) N25(23.992,-12.001) N26(24.992,-12.001) P1(-0.008,-13.001) P2(0.992,-13.001) P3(1.992,-13.001) P4(2.992,-13.001) P5(3.992,-13.001) P6(4.992,-13.001) P7(5.992,-13.001) P8(6.992,-13.001) P9(7.992,-13.001) P10(8.992,-13.001) P11(9.992,-13.001) P12(10.992,-13.001) P13(11.992,-13.001) P14(12.992,-13.001) P15(13.992,-13.001) P16(14.992,-13.001) P17(15.992,-13.001) P18(16.992,-13.001) P19(17.992,-13.001) P20(18.992,-13.001) P21(19.992,-13.001) P22(20.992,-13.001) P23(21.992,-13.001) P24(22.992,-13.001) P25(23.992,-13.001) P26(24.992,-13.001) R1(-0.008,-14.001) R2(0.992,-14.001) R3(1.992,-14.001) R4(2.992,-14.001) R5(3.992,-14.001) R6(4.992,-14.001) R7(5.992,-14.001) R8(6.992,-14.001) R9(7.992,-14.001) R10(8.992,-14.001) R11(9.992,-14.001) R12(10.992,-14.001) R13(11.992,-14.001) R14(12.992,-14.001) R15(13.992,-14.001) R16(14.992,-14.001) R17(15.992,-14.001) R18(16.992,-14.001) R19(17.992,-14.001) R20(18.992,-14.001) R21(19.992,-14.001) R22(20.992,-14.001) R23(21.992,-14.001) R24(22.992,-14.001) R25(23.992,-14.001) R26(24.992,-14.001) T1(-0.008,-15.001) T2(0.992,-15.001) T3(1.992,-15.001) T4(2.992,-15.001) T5(3.992,-15.001) T6(4.992,-15.001) T7(5.992,-15.001) T8(6.992,-15.001) T9(7.992,-15.001) T10(8.992,-15.001) T11(9.992,-15.001) T12(10.992,-15.001) T13(11.992,-15.001) T14(12.992,-15.001) T15(13.992,-15.001) T16(14.992,-15.001) T17(15.992,-15.001) T18(16.992,-15.001) T19(17.992,-15.001) T20(18.992,-15.001) T21(19.992,-15.001) T22(20.992,-15.001) T23(21.992,-15.001) T24(22.992,-15.001) T25(23.992,-15.001) T26(24.992,-15.001) U1(-0.008,-16.001) U2(0.992,-16.001) U3(1.992,-16.001) U4(2.992,-16.001) U5(3.992,-16.001) U6(4.992,-16.001) U7(5.992,-16.001) U8(6.992,-16.001) U9(7.992,-16.001) U10(8.992,-16.001) U11(9.992,-16.001) U12(10.992,-16.001) U13(11.992,-16.001) U14(12.992,-16.001) U15(13.992,-16.001) U16(14.992,-16.001) U17(15.992,-16.001) U18(16.992,-16.001) U19(17.992,-16.001) U20(18.992,-16.001) U21(19.992,-16.001) U22(20.992,-16.001) U23(21.992,-16.001) U24(22.992,-16.001) U25(23.992,-16.001) U26(24.992,-16.001) V1(-0.008,-17.001) V2(0.992,-17.001) V3(1.992,-17.001) V4(2.992,-17.001) V5(3.992,-17.001) V6(4.992,-17.001) V7(5.992,-17.001) V8(6.992,-17.001) V9(7.992,-17.001) V10(8.992,-17.001) V11(9.992,-17.001) V12(10.992,-17.001) V13(11.992,-17.001) V14(12.992,-17.001) V15(13.992,-17.001) V16(14.992,-17.001) V17(15.992,-17.001) V18(16.992,-17.001) V19(17.992,-17.001) V20(18.992,-17.001) V21(19.992,-17.001) V22(20.992,-17.001) V23(21.992,-17.001) V24(22.992,-17.001) V25(23.992,-17.001) V26(24.992,-17.001) W1(-0.008,-18.001) W2(0.992,-18.001) W3(1.992,-18.001) W4(2.992,-18.001) W5(3.992,-18.001) W6(4.992,-18.001) W7(5.992,-18.001) W8(6.992,-18.001) W9(7.992,-18.001) W10(8.992,-18.001) W11(9.992,-18.001) W12(10.992,-18.001) W13(11.992,-18.001) W14(12.992,-18.001) W15(13.992,-18.001) W16(14.992,-18.001) W17(15.992,-18.001) W18(16.992,-18.001) W19(17.992,-18.001) W20(18.992,-18.001) W21(19.992,-18.001) W22(20.992,-18.001) W23(21.992,-18.001) W24(22.992,-18.001) W25(23.992,-18.001) W26(24.992,-18.001) Y1(-0.008,-19.001) Y2(0.992,-19.001) Y3(1.992,-19.001) Y4(2.992,-19.001) Y5(3.992,-19.001) Y6(4.992,-19.001) Y7(5.992,-19.001) Y8(6.992,-19.001) Y9(7.992,-19.001) Y10(8.992,-19.001) Y11(9.992,-19.001) Y12(10.992,-19.001) Y13(11.992,-19.001) Y14(12.992,-19.001) Y15(13.992,-19.001) Y16(14.992,-19.001) Y17(15.992,-19.001) Y18(16.992,-19.001) Y19(17.992,-19.001) Y20(18.992,-19.001) Y21(19.992,-19.001) Y22(20.992,-19.001) Y23(21.992,-19.001) Y24(22.992,-19.001) Y25(23.992,-19.001) Y26(24.992,-19.001)
Top Overlay:
  lines w0.2: -1.008,-26.001 -1.008,-0.001 -0.008,0.999 25.992,0.999 25.992,-26.001 -1.008,-26.001